# EAGLE library part HDR1X6-M (library Cynara-Connectors)
WR-PHD 2.54mm Header, 6 Pins <http://katalog.we-online.de/media/images/eican/Con_BTB_PHD_2.54_1_THT_61303211021_pf2.jpg> Details see: http://katalog.we-online.de/en/em/613_0xx_110_21 Created 2014-05-29, Karrer Zheng 2014 (C) Würth Elektronik
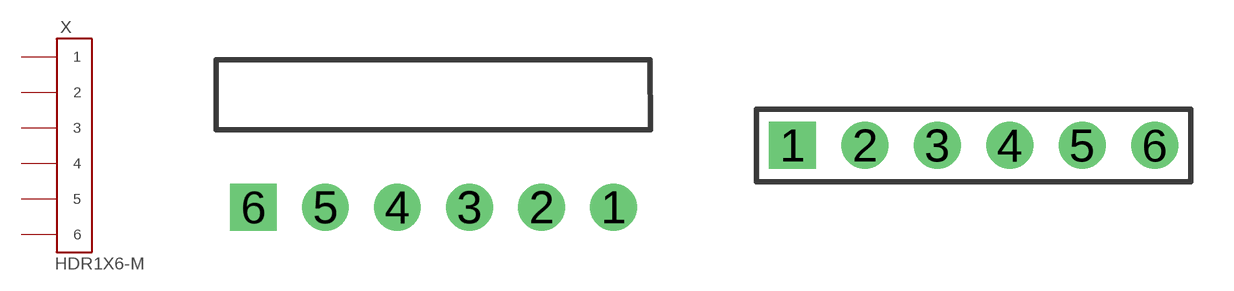
[diagram p6: symbol with the pads of 1X6_RA_MALE; footprints 1X6_RA_MALE, 1X6]

Designator prefix X

## HDR1X6-M-RA (MANUFACTURER: Wurth; MANUFACTURERPARTNO: 61300611021; VALUE: HDR1X6 RA)  [1X6_RA_MALE]
1  1  pas
2  2  pas
3  3  pas
4  4  pas
5  5  pas
6  6  pas

## HDR1X6-M-VERT (MANUFACTURER: Wurth; MANUFACTURERPARTNO: 61300611121; VALUE: HDR1X6)  [1X6]
Pads as for 1X6_RA_MALE

## Footprint 1X6_RA_MALE (pad centres in mm)
WR-PHD 2.54mm Angled Pin Header, 6 Pins
drill 1.1: 1 6.35,0; 2 3.81,0; 3 1.27,0; 4 -1.27,0; 5 -3.81,0
drill 1.1 square: 6 -6.35,0

## Footprint 1X6 (pad centres in mm)
WR-PHD 2.54mm Pin Header, 6 Pin
drill 1.1 square: 1 -6.35,0
drill 1.1: 2 -3.81,0; 3 -1.27,0; 4 1.27,0; 5 3.81,0; 6 6.35,0